# EAGLE library part M57184N-715B (library M57184N-715B)
High Voltage Input DC-to-DC Converter Source: Datasheet <https://4donline.ihs.com/images/VipMasterIC/IC/PWRX/PWRXS01028/PWRXS01028-1.pdf?hkey=EF798316E3902B6ED9A73243A3159BB0>
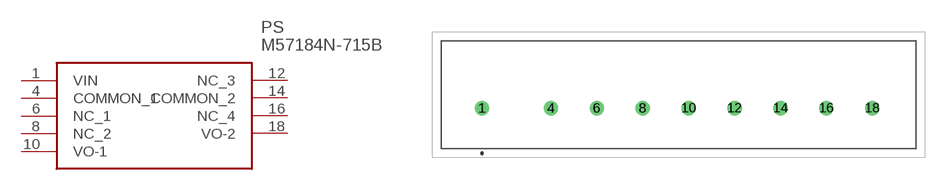
[diagram p0: symbol with the pads of M57184N715B; footprint M57184N715B]

Designator prefix PS

## M57184N-715B (Description: High Voltage Input DC-to-DC Converter; Height: 24.5mm; Manufacturer_Name: POWEREX; Manufacturer_Part_Number: M57184N-715B)  [M57184N715B]
1  VIN
4  COMMON_1
6  NC_1
8  NC_2
10  VO-1
12  NC_3
14  COMMON_2
16  NC_4
18  VO-2

## Footprint M57184N715B (pad centres in mm)
M57184N-715B-2
drill 1.05 pad 1.575: 1 0,0; 4 7.62,0; 6 12.7,0; 8 17.78,0; 10 22.86,0; 12 27.94,0; 14 33.02,0; 16 38.1,0; 18 43.18,0